# Altium footprint library Sensors_PCB_Components.PcbLib: 2 footprints
Each footprint in its own frame and in the unit in brackets; x right, y up, seen from the top. Pads: shape width x height; smd on the part's side, far side on the other; paste and mask are expansions set on the pad; w line width, h text height; cw(c..) or ccw(c..) is an arc to the next point about the centre after c.
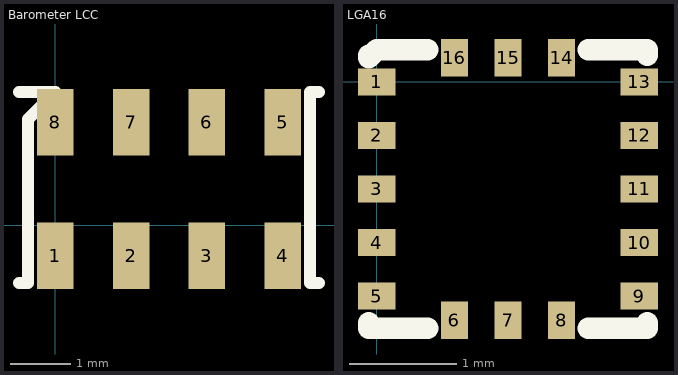
[diagram p0: the footprints below, top view; thin cyan lines are the x and y axes]

## Barometer LCC [mm]
pads (8):
  rect 0.6x1.1 smd: 1(0,-0.5) 2(1.25,-0.5) 3(2.5,-0.5) 4(3.75,-0.5) 5(3.75,1.7) 6(2.5,1.7) 7(1.25,1.7) 8(0,1.7)
Top Overlay:
  lines w0.2: -0.6,-0.95 -0.45,-0.95 -0.45,0.65 ; -0.6,2.2 0,2.2 -0.45,1.75 -0.45,0.6 ; 4.2,0.6 4.2,2.2 4.35,2.2 ; 4.2,0.65 4.2,-0.95 4.35,-0.95

## LGA16 [mm]
pads (16):
  rect 0.35x0.25 smd: 1(0,0) 2(0,-0.5) 3(0,-1) 4(0,-1.5) 5(0,-2) 9(2.45,-2) 10(2.45,-1.5) 11(2.45,-1) 12(2.45,-0.5) 13(2.45,0)
  rect 0.25x0.35 smd: 6(0.725,-2.225) 7(1.225,-2.225) 8(1.725,-2.225) 14(1.725,0.225) 15(1.225,0.225) 16(0.725,0.225)
Top Overlay:
  lines w0.2: -0.075,-2.25 -0.075,-2.3 0.475,-2.3 ; -0.075,0.25 -0.075,0.225 0,0.3 0.475,0.3 ; 1.975,-2.3 2.525,-2.3 2.525,-2.25 ; 1.975,0.3 2.525,0.3 2.525,0.25